# Altium integrated library Lattice FPGA XP.IntLib: 280 symbols (part 44 of 55)

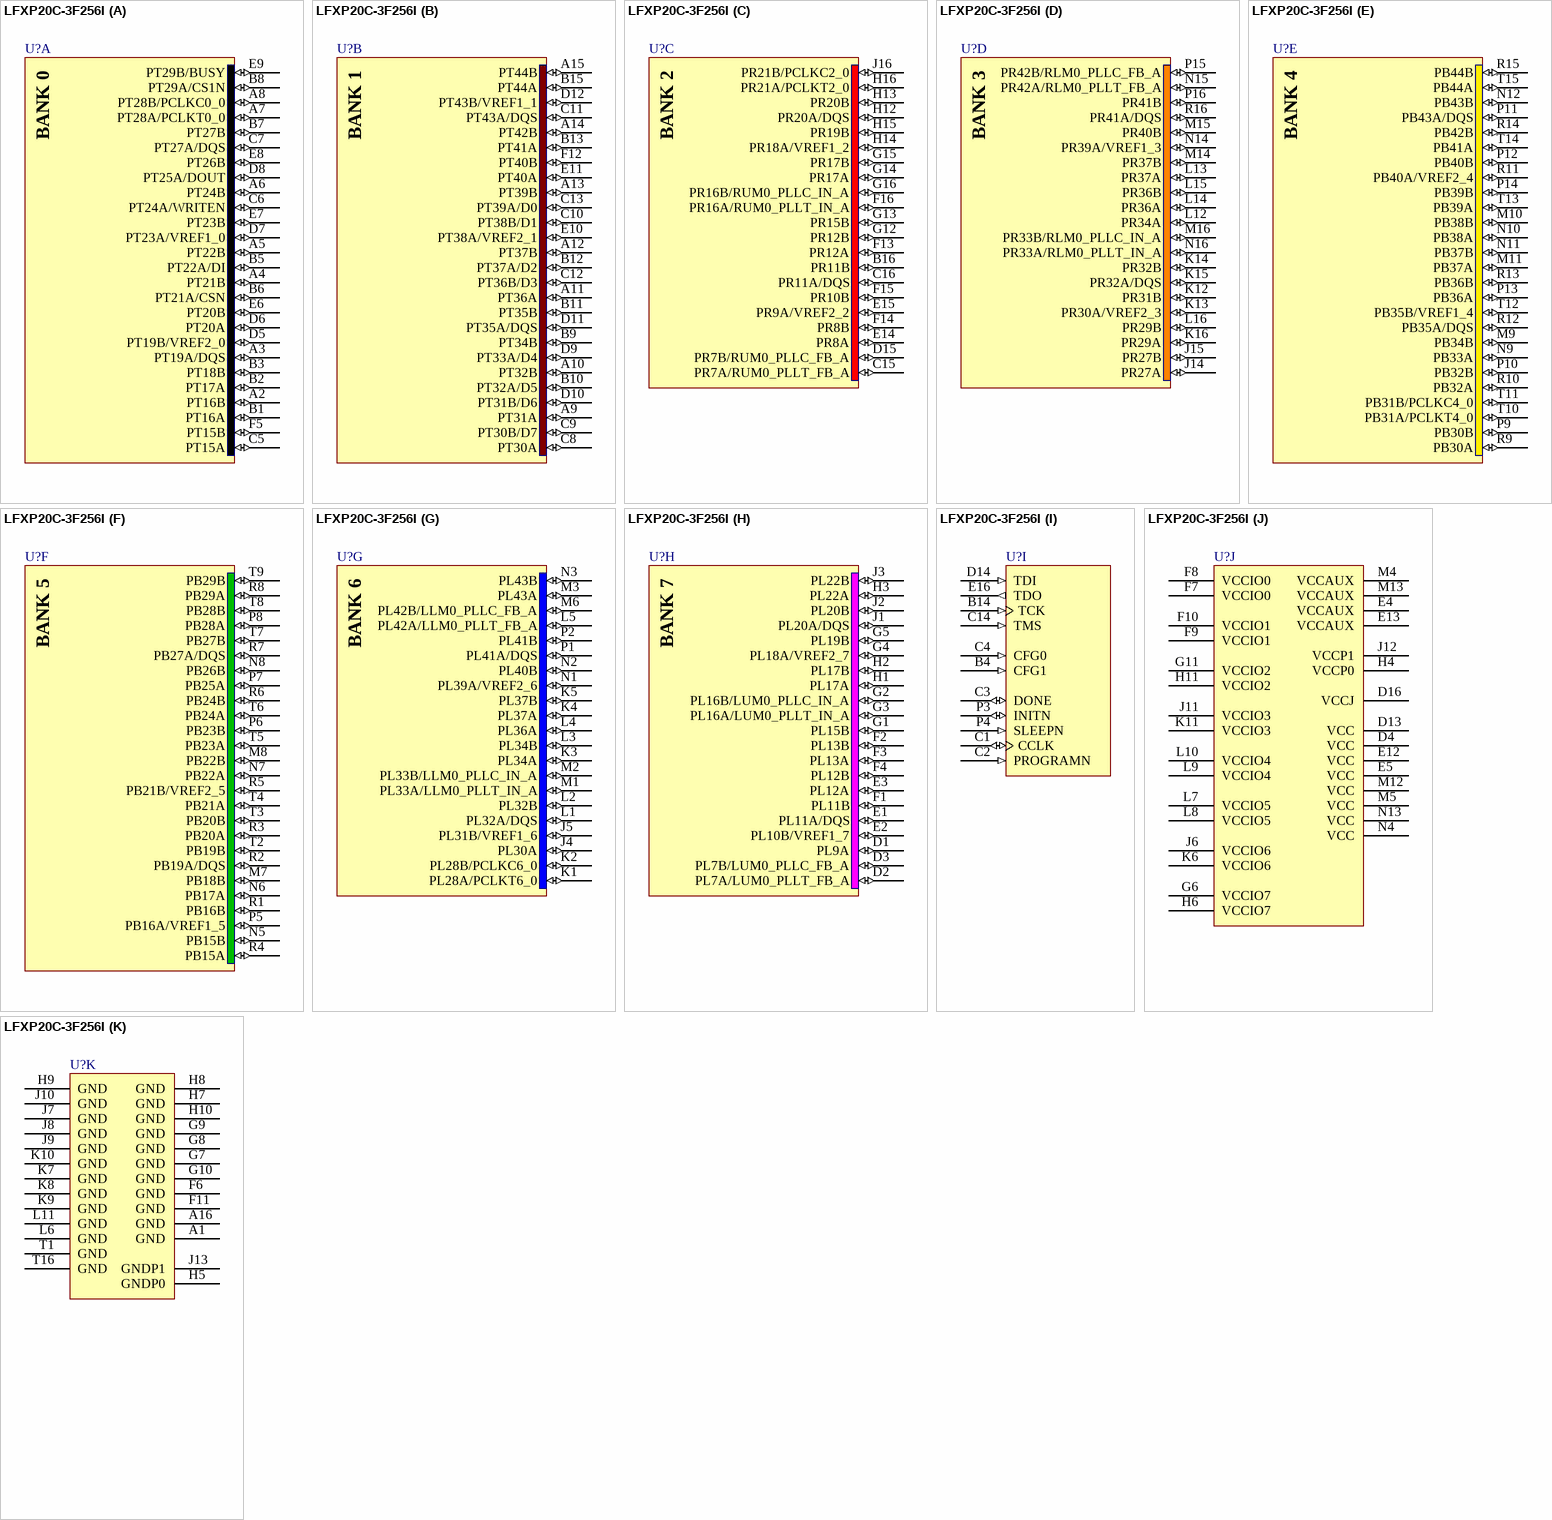
[diagram p175: symbol LFXP20C-3F256I]